# Altium schematic symbol library Crystals.SchLib: 5 symbols
Pins are listed as number, name and electrical type; pins without a type are passive.

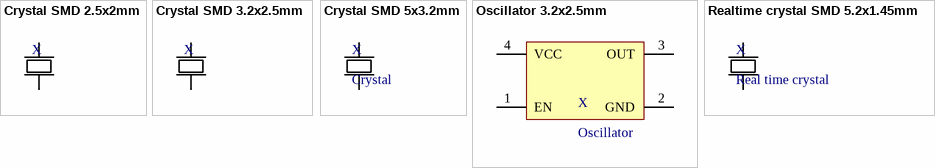
[diagram p0: symbols Crystal SMD 2.5x2mm to Realtime crystal SMD 5.2x1.45mm]

## Crystal SMD 2.5x2mm
designator X, comment Crystal  (value not drawn)
Value: 12MHz
footprint Crystal SMD 2.5x2
pins: 1 3, 2 4, 3 1, 4 2

## Crystal SMD 3.2x2.5mm
designator X, comment Comment  (value not drawn)
Value: 16MHz
footprint Crystal SMD 16MHz 3.2x2.5
pins: 1 3, 2 4, 3 1, 4 2

## Crystal SMD 5x3.2mm
designator X, comment Crystal
Value: 16MHz
footprint Crystal SMD 16MHz 5x3.2
pins: 1 3, 2 4, 3 1, 4 2

## Oscillator 3.2x2.5mm
designator X, comment Oscillator
footprint Crystal SMD 3.2x2.5
pins: 1 EN, 2 GND, 3 OUT, 4 VCC

## Realtime crystal SMD 5.2x1.45mm
designator X, comment Real time crystal
footprint Realtime crystal SMD 4.2x1.45mm
pins: 1 3, 2 1